# EAGLE library part SDRAM-16MX16 (library xess)
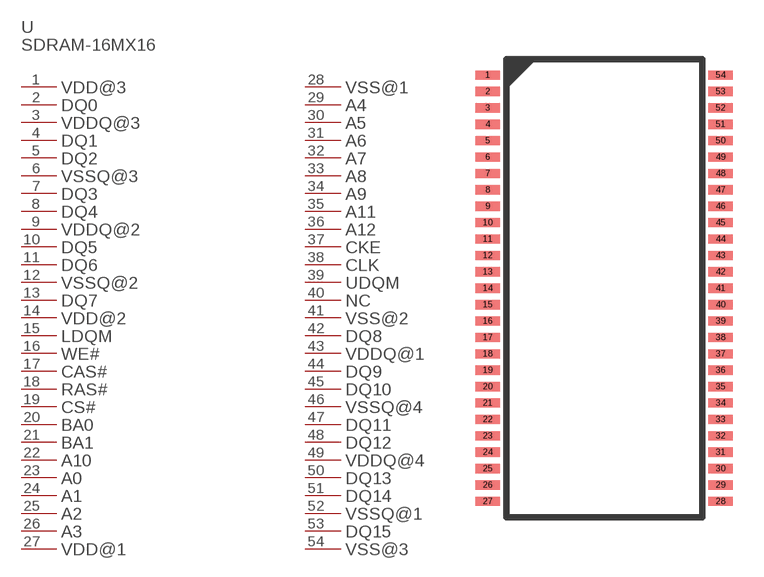
[diagram p96: symbol with the pads of TSOPII-54; footprint TSOPII-54]

Designator prefix U; gates PART_VALUE=PART_VALUE-SDRAM-16MX16 VDD@3=PL-SDRAM-16MX16 DQ0=PL-SDRAM-16MX16 VDDQ@3=PL-SDRAM-16MX16 DQ1=PL-SDRAM-16MX16 DQ2=PL-SDRAM-16MX16 VSSQ@3=PL-SDRAM-16MX16 DQ3=PL-SDRAM-16MX16 DQ4=PL-SDRAM-16MX16 VDDQ@2=PL-SDRAM-16MX16 DQ5=PL-SDRAM-16MX16 DQ6=PL-SDRAM-16MX16 VSSQ@2=PL-SDRAM-16MX16 DQ7=PL-SDRAM-16MX16 VDD@2=PL-SDRAM-16MX16 LDQM=PL-SDRAM-16MX16 WE#=PL-SDRAM-16MX16 CAS#=PL-SDRAM-16MX16 RAS#=PL-SDRAM-16MX16 CS#=PL-SDRAM-16MX16 BA0=PL-SDRAM-16MX16 BA1=PL-SDRAM-16MX16 A10=PL-SDRAM-16MX16 A0=PL-SDRAM-16MX16 A1=PL-SDRAM-16MX16 A2=PL-SDRAM-16MX16 A3=PL-SDRAM-16MX16 VDD@1=PL-SDRAM-16MX16 VSS@1=PL-SDRAM-16MX16 A4=PL-SDRAM-16MX16 A5=PL-SDRAM-16MX16 A6=PL-SDRAM-16MX16 A7=PL-SDRAM-16MX16 A8=PL-SDRAM-16MX16 A9=PL-SDRAM-16MX16 A11=PL-SDRAM-16MX16 A12=PL-SDRAM-16MX16 CKE=PL-SDRAM-16MX16 CLK=PL-SDRAM-16MX16 UDQM=PL-SDRAM-16MX16 NC=PL-SDRAM-16MX16 VSS@2=PL-SDRAM-16MX16 DQ8=PL-SDRAM-16MX16 VDDQ@1=PL-SDRAM-16MX16 DQ9=PL-SDRAM-16MX16 DQ10=PL-SDRAM-16MX16 VSSQ@4=PL-SDRAM-16MX16 DQ11=PL-SDRAM-16MX16 DQ12=PL-SDRAM-16MX16 VDDQ@4=PL-SDRAM-16MX16 DQ13=PL-SDRAM-16MX16 DQ14=PL-SDRAM-16MX16 VSSQ@1=PL-SDRAM-16MX16 DQ15=PL-SDRAM-16MX16 VSS@3=PL-SDRAM-16MX16

## SDRAM-16MX16-SAMSUNG (MANF: Samsung; MANF#: K4S561632E-TC75000)  [TSOPII-54]
1  VDD@3:P$1
2  DQ0:P$1
3  VDDQ@3:P$1
4  DQ1:P$1
5  DQ2:P$1
6  VSSQ@3:P$1
7  DQ3:P$1
8  DQ4:P$1
9  VDDQ@2:P$1
10  DQ5:P$1
11  DQ6:P$1
12  VSSQ@2:P$1
13  DQ7:P$1
14  VDD@2:P$1
15  LDQM:P$1
16  WE#:P$1
17  CAS#:P$1
18  RAS#:P$1
19  CS#:P$1
20  BA0:P$1
21  BA1:P$1
22  A10:P$1
23  A0:P$1
24  A1:P$1
25  A2:P$1
26  A3:P$1
27  VDD@1:P$1
28  VSS@1:P$1
29  A4:P$1
30  A5:P$1
31  A6:P$1
32  A7:P$1
33  A8:P$1
34  A9:P$1
35  A11:P$1
36  A12:P$1
37  CKE:P$1
38  CLK:P$1
39  UDQM:P$1
40  NC:P$1
41  VSS@2:P$1
42  DQ8:P$1
43  VDDQ@1:P$1
44  DQ9:P$1
45  DQ10:P$1
46  VSSQ@4:P$1
47  DQ11:P$1
48  DQ12:P$1
49  VDDQ@4:P$1
50  DQ13:P$1
51  DQ14:P$1
52  VSSQ@1:P$1
53  DQ15:P$1
54  VSS@3:P$1

## SDRAM-16MX16-WINBOND (MANF: Winbond; MANF#: W9825G6JH-5)  [TSOPII-54]
Pads as for TSOPII-54

## Footprint TSOPII-54 (pad centres in mm)
TSOPII-54 54-lead TSOP II 400 mil wide package.
smd 1.2 x 0.45: 1 0,0; 2 0,-0.8; 3 0,-1.6; 4 0,-2.4; 5 0,-3.2; 6 0,-4; 7 0,-4.8; 8 0,-5.6; 9 0,-6.4; 10 0,-7.2; 11 0,-8; 12 0,-8.8; 13 0,-9.6; 14 0,-10.4; 15 0,-11.2; 16 0,-12; 17 0,-12.8; 18 0,-13.6; 19 0,-14.4; 20 0,-15.2; 21 0,-16; 22 0,-16.8; 23 0,-17.6; 24 0,-18.4; 25 0,-19.2; 26 0,-20; 27 0,-20.8; 28 11.36,-20.8; 29 11.36,-20; 30 11.36,-19.2; 31 11.36,-18.4; 32 11.36,-17.6; 33 11.36,-16.8; 34 11.36,-16; 35 11.36,-15.2; 36 11.36,-14.4; 37 11.36,-13.6; 38 11.36,-12.8; 39 11.36,-12; 40 11.36,-11.2; 41 11.36,-10.4; 42 11.36,-9.6; 43 11.36,-8.8; 44 11.36,-8; 45 11.36,-7.2; 46 11.36,-6.4; 47 11.36,-5.6; 48 11.36,-4.8; 49 11.36,-4; 50 11.36,-3.2; 51 11.36,-2.4; 52 11.36,-1.6; 53 11.36,-0.8; 54 11.36,0